# Altium schematic symbol library 18.连接器件.sch.SCHLIB: 77 symbols
Pins are listed as number, name and electrical type; pins without a type are passive.

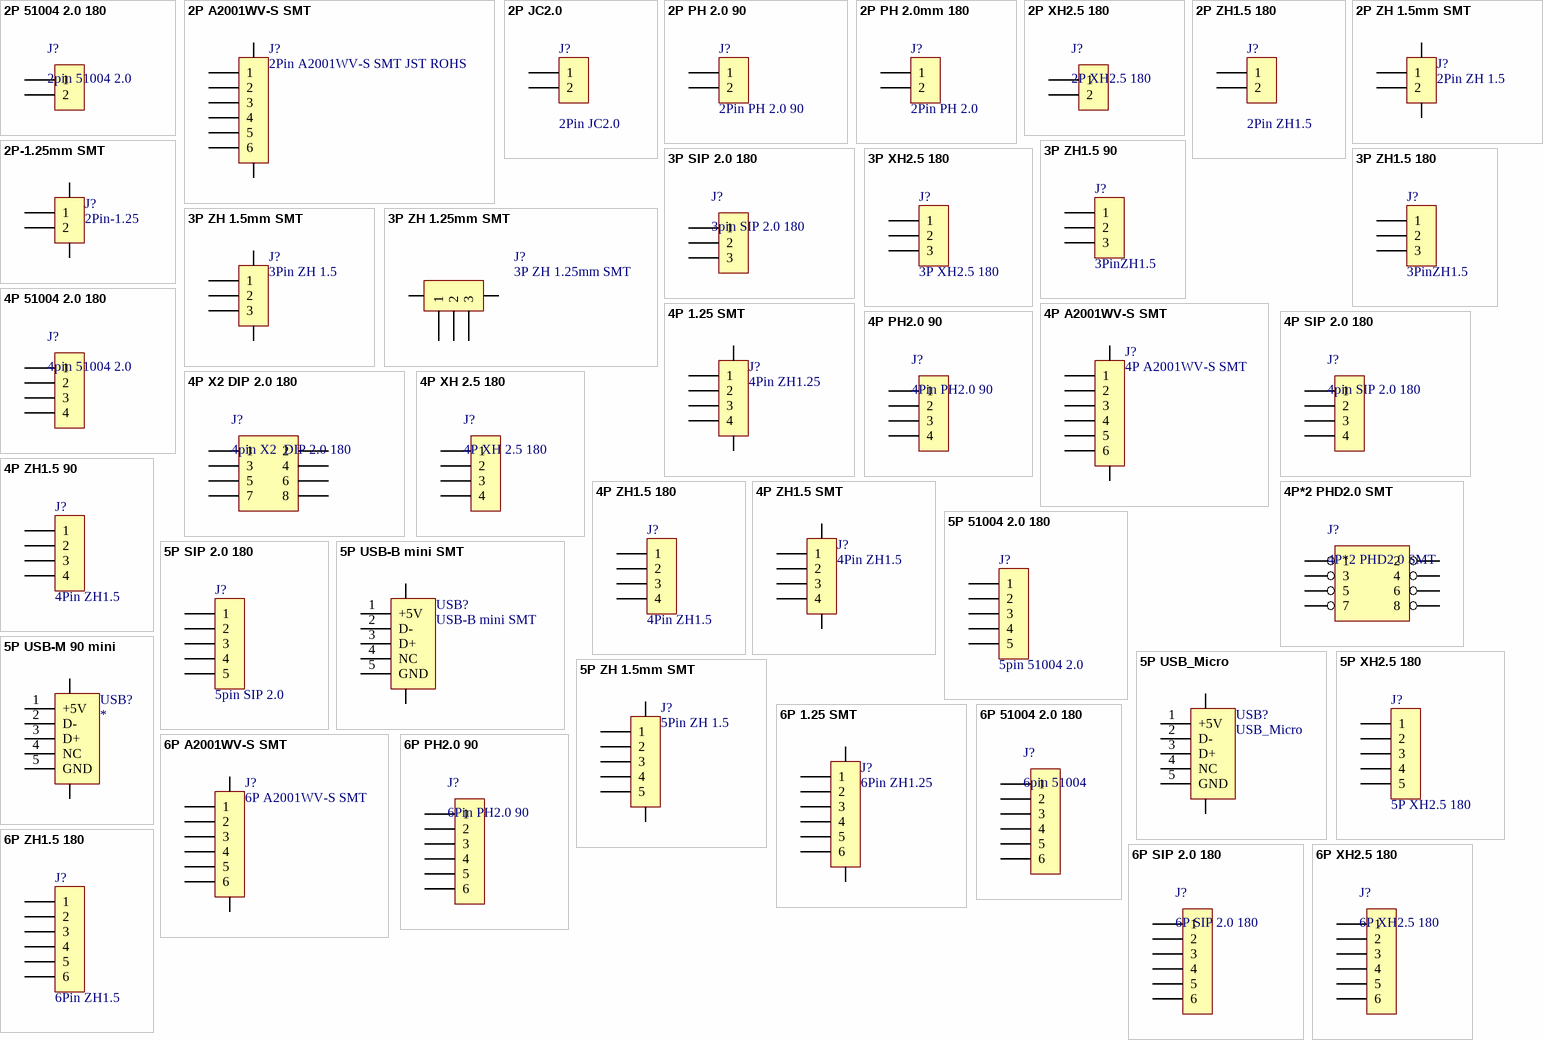
[diagram p0: symbols 2P 51004 2.0 180 to 6P ZH1.5 180]

## 2P 51004 2.0 180
designator J?, comment 2pin 51004 2.0
2pin 51004 2.0 180 Molex  ROHS; 物料编码: 38505128A; 器件名称: 插座; 器件价格: 0.65
footprint 2P-51004
pins: 1, 2

## 2P A2001WV-S SMT
designator J?, comment 2Pin A2001WV-S SMT JST ROHS
物料名称: 插座; 器件价格: *
footprint 2P-A2001WV-S
pins: 0, 0, 1, 2, 3, 4, 5, 6

## 2P JC2.0
designator J?, comment 2Pin JC2.0
2Pin JC2.0 ROHS; 物料编码: 38508091A; 器件名称: 插座; 器件价格: 0
footprint 2P-JC2.0
pins: 1, 2

## 2P PH 2.0 90
designator J?, comment 2Pin PH 2.0 90
2Pin PH 2.0 90 JST    ROHS; 物料编码: 38505031A; 器件名称: 插座
footprint 2P-PH-2.0-90
pins: 1, 2

## 2P PH 2.0mm 180
designator J?, comment 2Pin PH 2.0
2Pin PH 2.0mm 180 JST    ROHS; 物料编码: 38505031A; 器件名称: 插座
footprint 2P-51004
pins: 1, 2

## 2P XH2.5 180
designator J?
2pin XH2.5 180 JST  ROHS; 物料编码: 0; 器件名称: 插座; 器件价格: 0
footprint 2P-XH2.5 (Footprint not found)
pins: 1, 2

## 2P ZH1.5 180
designator J?, comment 2Pin ZH1.5
2Pin ZH1.5 180 JST ROHS; 物料编码: 38508091A; 器件名称: 插座; 器件价格: 0
footprint 2P-ZH1.5
pins: 1, 2

## 2P ZH 1.5mm SMT
designator J?, comment 2Pin ZH 1.5
2Pin ZH 1.5mm SMT JST   ROHS; 物料编码: 38505065A; 器件名称: 插座
footprint 2P-ZH1.5-SMT
pins: 0, 0, 1, 2

## 2P-1.25mm SMT
designator J?, comment 2Pin-1.25
2Pin 1.25mm SMT JST   ROHS; 器件名称: 插座
footprint 2P-1.25-SMT
pins: 0, 0, 1, 2

## 3P SIP 2.0 180
designator J?, comment 3pin SIP 2.0 180
3pin SIP 2.0 180  ROHS; 物料编码: 38505129A; 器件名称: 插座; 器件价格: 0.75
footprint SIP3(2.0) (单排针)
pins: 1, 2, 3

## 3P XH2.5 180
designator J?
3Pin XH2.5 180 JST ROHS; 物料编码: 0; 器件名称: 插座; 器件价格: 0
footprint 3P-XH2.5 (Footprint not found)
pins: 1, 2, 3

## 3P ZH1.5 90
designator J?, comment 3PinZH1.5
3PinZH1.5 90 JST ROHS; 物料编码: 38508088A; 器件名称: 插座
footprint 3P-ZH1.5
pins: 1, 2, 3

## 3P ZH1.5 180
designator J?, comment 3PinZH1.5
3PinZH1.5 180 JST ROHS; 物料编码: 38508092A; 器件名称: 插座; 器件价格: 0
footprint 3P-ZH1.5
pins: 1, 2, 3

## 3P ZH 1.5mm SMT
designator J?, comment 3Pin ZH 1.5
3Pin ZH 1.5mm SMT JST ROHS; 物料编码: 38505066A; 器件名称: 插座
footprint 3P-ZH1.5-SMT
pins: 0, 0, 1, 2, 3

## 3P ZH 1.25mm SMT
designator J?
3P ZH 1.25mm SMTJST ROHS; 物料编码: 38505066A; 器件名称: 插座
footprint 3P-1.25-SMT
pins: 0, 0, 1, 2, 3

## 4P 1.25 SMT
designator J?, comment 4Pin ZH1.25
4Pin ZH1.25 SMT JST  ROHS; 物料编码: 38505067A; 器件名称: 插座
footprint 4P-1.25-SMT
pins: 0, 0, 1, 2, 3, 4

## 4P 51004 2.0 180
designator J?, comment 4pin 51004 2.0
4pin 51004 2.0 180 Molex  ROHS; 物料编码: 38505129A; 器件名称: 插座; 器件价格: 0.75
footprint 4P-51004
pins: 1, 2, 3, 4

## 4P A2001WV-S SMT
designator J?
4P-A2001WV-S SMT JST ROHS; 物料名称: 插座; 器件价格: *
footprint 4P-A2001WV-S
pins: 0, 0, 1, 2, 3, 4, 5, 6

## 4P PH2.0 90
designator J?, comment 4Pin PH2.0 90
4Pin PH2.0 90 JST  ROHS; 物料编码: 38508078A; 器件名称: 插座
footprint 4P-PH-2.0-90
pins: 1, 2, 3, 4

## 4P SIP 2.0 180
designator J?, comment 4pin SIP 2.0 180
4pin SIP 2.0 180  ROHS; 物料编码: 38505129A; 器件名称: 插座; 器件价格: 0.75
footprint SIP4(2.0) (单排针)
pins: 1, 2, 3, 4

## 4P X2 DIP 2.0 180
designator J?, comment 4pin X2  DIP 2.0 180
物料编码: 38505129A; 器件名称: 插座; 器件价格: 0.75
footprint 8P-DIP-2.0-180
pins: 1, 2, 3, 4, 5, 6, 7, 8

## 4P XH 2.5 180
designator J?
4pin XH 2.5 180 JST  ROHS; 物料编码: 38505129A; 器件名称: 插座; 器件价格: 0.75
footprint 4P-XH2.5 (Footprint not found)
pins: 1, 2, 3, 4

## 4P ZH1.5 90
designator J?, comment 4Pin ZH1.5
4Pin ZH1.5 90 JST   ROHS; 物料编码: 38508084A; 器件名称: 插座
footprint 4P-ZH1.5
pins: 1, 2, 3, 4

## 4P ZH1.5 180
designator J?, comment 4Pin ZH1.5
4Pin ZH1.5 180 JST   ROHS; 物料编码: 38508093A; 器件名称: 插座; 器件价格: 0
footprint 4P-ZH1.5
pins: 1, 2, 3, 4

## 4P ZH1.5 SMT
designator J?, comment 4Pin ZH1.5
4Pin ZH1.5 SMT JST  ROHS; 物料编码: 38505067A; 器件名称: 插座
footprint 4P-ZH1.5-SMT
pins: 0, 0, 1, 2, 3, 4

## 4P*2 PHD2.0 SMT
designator J?
4P*2 PHD2.0 SMT JST ROHS; 器件名称: 插座; 器件价格: 0.215
footprint 8P-SOP
pins: 1, 2, 3, 4, 5, 6, 7, 8

## 5P 51004 2.0 180
designator J?, comment 5pin 51004 2.0
5pin 51004 2.0 180 Molex  ROHS; 物料编码: 38505130A; 器件名称: 插座; 器件价格: 0.92
footprint 5P-51004
pins: 1, 2, 3, 4, 5

## 5P SIP 2.0 180
designator J?, comment 5pin SIP 2.0
5pin SIP 2.0 180  ROHS; 物料编码: 38505130A; 器件名称: 插座; 器件价格: 0.92
footprint SIP5(2.0) (单排针)
pins: 1, 2, 3, 4, 5

## 5P USB-B mini SMT
designator USB?, comment USB-B mini SMT
footprint USB-B-MINI-5-S
pins: 0, 0, 1 +5V, 2 D-, 3 D+, 4 NC, 5 GND

## 5P USB-M 90 mini
designator USB?
USB-M 90 mini型
footprint USB-B-MINI-5-D
pins: 0, 0, 1 +5V, 2 D-, 3 D+, 4 NC, 5 GND

## 5P USB_Micro
designator USB?, comment USB_Micro
USB-B MicroSMT
footprint USB_Micro (5P 贴片 带定位柱)
pins: 0, 0, 1 +5V, 2 D-, 3 D+, 4 NC, 5 GND

## 5P XH2.5 180
designator J?
5pin XH2.5 180 JST  ROHS; 物料编码: 38505130A; 器件名称: 插座; 器件价格: 0.92
footprint 5P-XH2.5 (Footprint not found)
pins: 1, 2, 3, 4, 5

## 5P ZH 1.5mm SMT
designator J?, comment 5Pin ZH 1.5
5Pin ZH 1.5mm SMT JST   ROHS; 物料编码: 38505068A; 器件名称: 插座
footprint 5P-ZH1.5-SMT
pins: 0, 0, 1, 2, 3, 4, 5

## 6P 1.25 SMT
designator J?, comment 6Pin ZH1.25
6Pin ZH1.25 SMT JST  ROHS; 器件名称: 插座
footprint 6P-1.25-SMT
pins: 0, 0, 1, 2, 3, 4, 5, 6

## 6P 51004 2.0 180
designator J?, comment 6pin 51004
6pin 51004 2.0 180 Molex  ROHS; 物料编码: 38505131A; 器件名称: 插座; 器件价格: 0.91
footprint 6P-51004
pins: 1, 2, 3, 4, 5, 6

## 6P A2001WV-S SMT
designator J?
6P-A2001WV-S SMT JST   ROHS; 物料名称: 插座; 器件价格: *
footprint 6P-A2001WV-S
pins: 0, 0, 1, 2, 3, 4, 5, 6

## 6P PH2.0 90
designator J?, comment 6Pin PH2.0 90
6Pin PH2.0 90 JST  ROHS; 器件名称: 插座
footprint 6P-PH-2.0-90 (Footprint not found)
pins: 1, 2, 3, 4, 5, 6

## 6P SIP 2.0 180
designator J?
6pin SIP 2.0 180 Molex  ROHS; 物料编码: 38505131A; 器件名称: 插座; 器件价格: 0.91
footprint SIP6(2.0) (单排针)
pins: 1, 2, 3, 4, 5, 6

## 6P XH2.5 180
designator J?
6pin XH2.5 180 JST ROHS; 物料编码: 38505131A; 器件名称: 插座; 器件价格: 0.91
footprint 6P-XH2.5 (Footprint not found)
pins: 1, 2, 3, 4, 5, 6

## 6P ZH1.5 180
designator J?, comment 6Pin ZH1.5
6Pin ZH1.5 180 JST  ROHS; 物料编码: 38508065A; 器件名称: 插座
footprint 6P-ZH1.5
pins: 1, 2, 3, 4, 5, 6

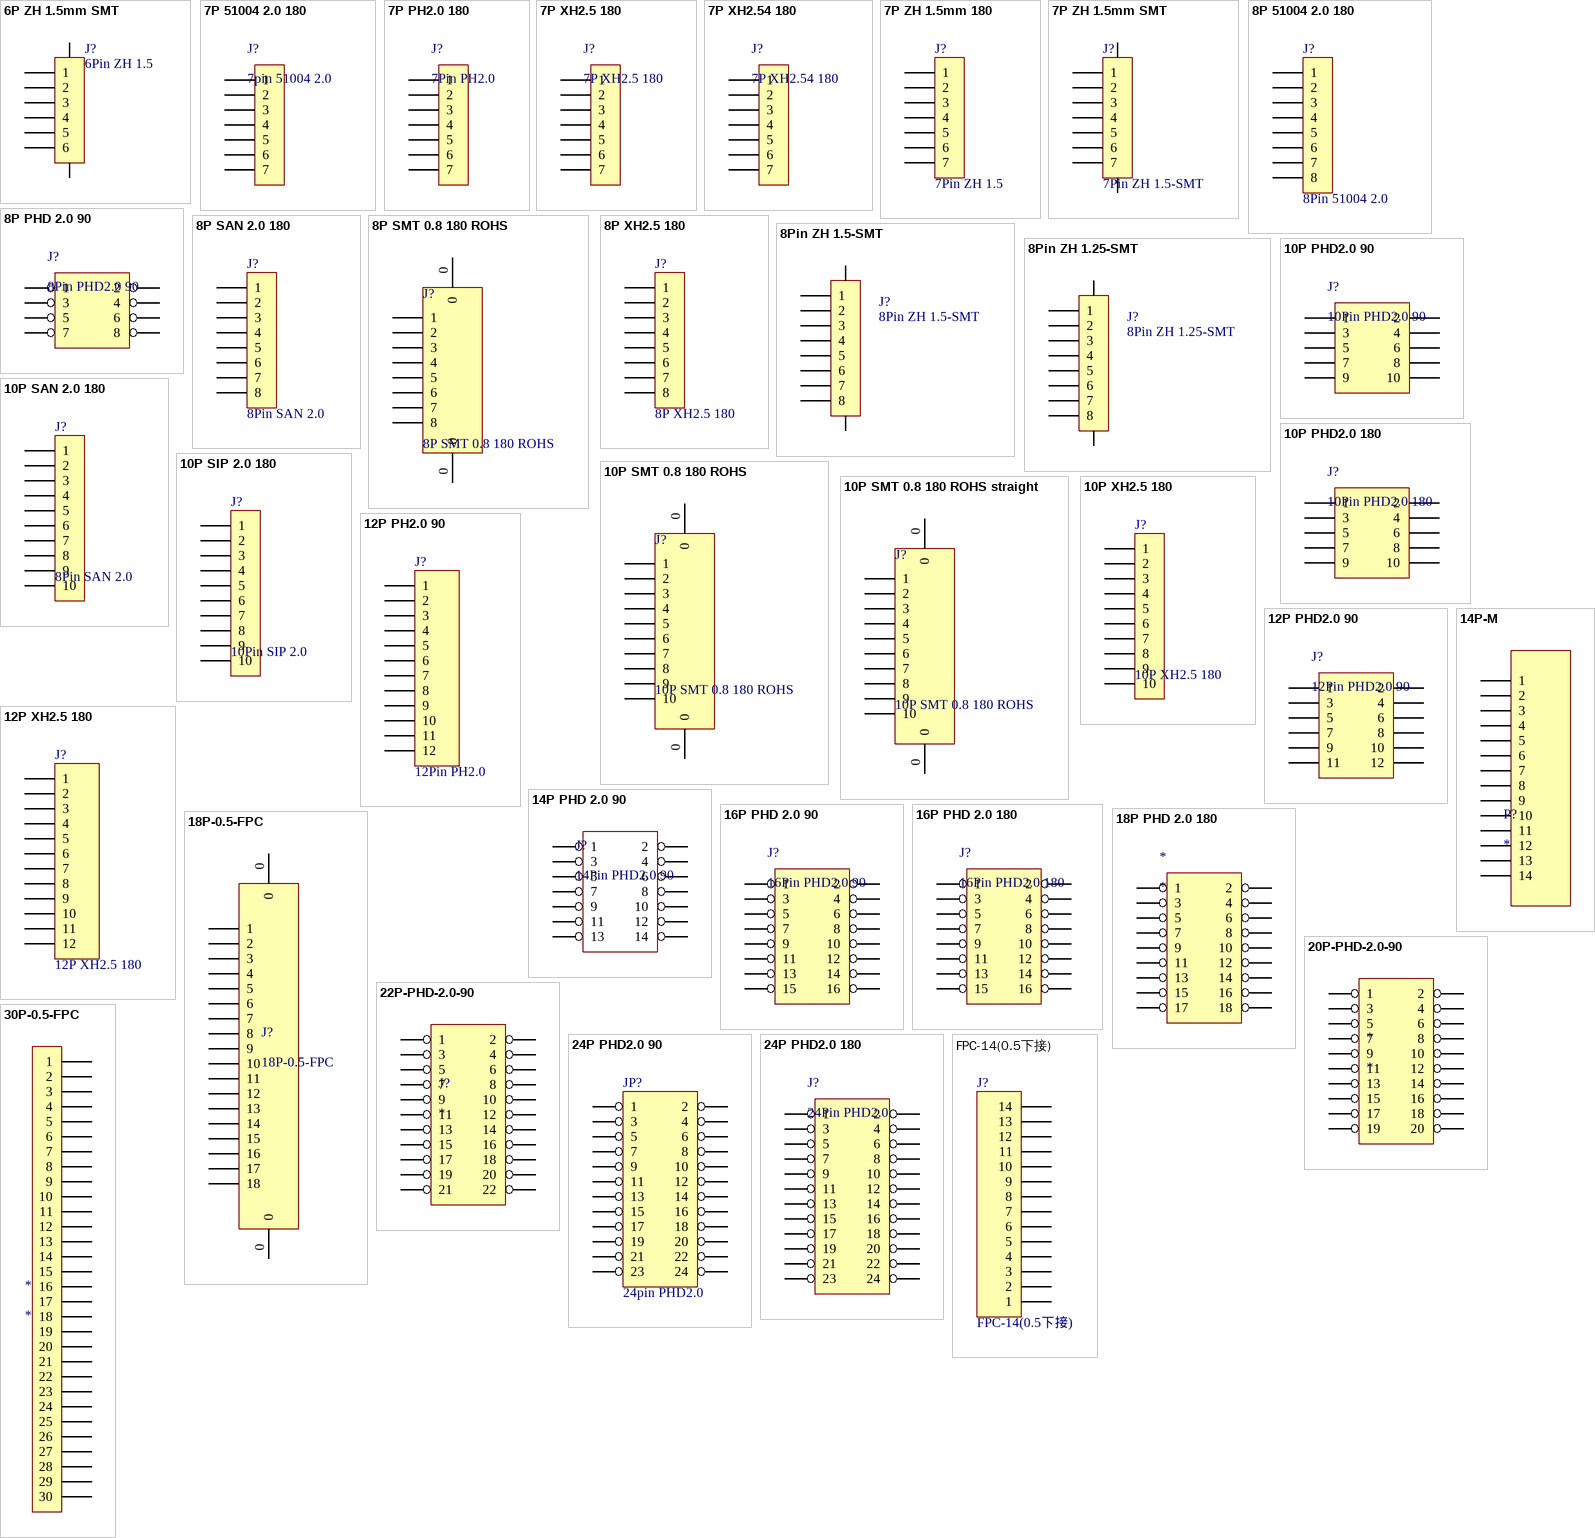
[diagram p1: symbols 6P ZH 1.5mm SMT to FPC-14(0.5下接)]

## 6P ZH 1.5mm SMT
designator J?, comment 6Pin ZH 1.5
6Pin ZH 1.5mm SMT JST   ROHS; 物料编码: 38505026A; 器件名称: 插座
footprint 6P-ZH1.5-SMT
pins: 0, 0, 1, 2, 3, 4, 5, 6

## 7P 51004 2.0 180
designator J?, comment 7pin 51004 2.0
7pin 51004 2.0 180 Molex  ROHS; 物料编码: 38505132A; 器件名称: 插座; 器件价格: 1.1
footprint 7P-51004
pins: 1, 2, 3, 4, 5, 6, 7

## 7P PH2.0 180
designator J?, comment 7Pin PH2.0
7Pin PH2.0 180 JST  ROHS; 物料编码: 38508071A; 器件名称: 插座
pins: 1, 2, 3, 4, 5, 6, 7

## 7P XH2.5 180
designator J?
7pin XH2.5 180 JST  ROHS; 物料编码: 38505132A; 器件名称: 插座; 器件价格: 1.1
footprint 7P-XH2.5
pins: 1, 2, 3, 4, 5, 6, 7

## 7P XH2.54 180
designator J?
7pin XH2.54 180; 物料编码: 38505132A; 器件名称: 插座; 器件价格: 1.1
footprint 7P-XH2.54
pins: 1, 2, 3, 4, 5, 6, 7

## 7P ZH 1.5mm 180
designator J?, comment 7Pin ZH 1.5
7Pin ZH 1.5mm 180 JST   ROHS; 物料编码: 38508051A; 器件名称: 插座
footprint 7P-ZH1.5
pins: 1, 2, 3, 4, 5, 6, 7

## 7P ZH 1.5mm SMT
designator J?, comment 7Pin ZH 1.5-SMT
7Pin ZH 1.5mm SMT JST   ROHS; 物料编码: 38505059A; 器件名称: 插座; 器件价格: 0.3
footprint 7P-ZH1.5-SMT
pins: 0, 0, 1, 2, 3, 4, 5, 6, 7

## 8P 51004 2.0 180
designator J?, comment 8Pin 51004 2.0
8Pin 51004 2.0 180 Molex  ROHS; 物料编码: 38505133A; 器件名称: 插座; 器件价格: 1.48
footprint 8P-51004
pins: 1, 2, 3, 4, 5, 6, 7, 8

## 8P PHD 2.0 90
designator J?, comment 8Pin PHD2.0 90
8Pin PHD2.0 90 JST ROHS; 器件名称: 插座; 器件价格: 0.215
footprint 8P-PHD-2.0-90 (Footprint not found)
pins: 1, 2, 3, 4, 5, 6, 7, 8

## 8P SAN 2.0 180
designator J?, comment 8Pin SAN 2.0
8Pin SAN 2.0 180 JST  ROHS; 器件名称: 插座; 器件价格: 0
footprint 8P-SAN2.0
pins: 1, 2, 3, 4, 5, 6, 7, 8

## 8P SMT 0.8 180 ROHS
designator J?
器件名称: 插座; 器件价格: 0
footprint 8P-0.8-SMT
pins: 0, 0, 1, 2, 3, 4, 5, 6, 7, 8

## 8P XH2.5 180
designator J?
8Pin XH2.5 180 JST  ROHS; 物料编码: 38505133A; 器件名称: 插座; 器件价格: 1.48
footprint 8P-XH2.5 (Footprint not found)
pins: 1, 2, 3, 4, 5, 6, 7, 8

## 8Pin ZH 1.5-SMT
designator J?
物料编码: 38505133A; 器件名称: 插座
footprint 8P-ZH1.5-SMT
pins: 0, 0, 1, 2, 3, 4, 5, 6, 7, 8

## 8Pin ZH 1.25-SMT
designator J?
物料编码: 38505133A; 器件名称: 插座
footprint 8P-ZH1.25-SMT
pins: 0, 0, 1, 2, 3, 4, 5, 6, 7, 8

## 10P PHD2.0 90
designator J?, comment 10Pin PHD2.0 90
10Pin PHD2.0 90 JST ROHS; 物料名称: 插座
footprint 10P-PHD-2.0-90
pins: 1, 2, 3, 4, 5, 6, 7, 8, 9, 10

## 10P PHD2.0 180
designator J?, comment 10Pin PHD2.0 180
10Pin PHD2.0 180 JST ROHS; 物料名称: 插座
footprint 10P-PHD-2.0-180
pins: 1, 2, 3, 4, 5, 6, 7, 8, 9, 10

## 10P SAN 2.0 180
designator J?, comment 8Pin SAN 2.0
10Pin SAN 2.0 180 JST  ROHS; 器件名称: 插座; 器件价格: 0
footprint 10P-SAN2.0
pins: 1, 2, 3, 4, 5, 6, 7, 8, 9, 10

## 10P SIP 2.0 180
designator J?, comment 10Pin SIP 2.0
10Pin SIP 2.0  ROHS; 器件名称: 插座; 器件价格: 0
footprint SIP10(2.0) (单排针)
pins: 1, 2, 3, 4, 5, 6, 7, 8, 9, 10

## 10P SMT 0.8 180 ROHS
designator J?
器件名称: 插座; 器件价格: 0
footprint 10P-0.8-SMT
pins: 0, 0, 1, 2, 3, 4, 5, 6, 7, 8, 9, 10

## 10P SMT 0.8 180 ROHS straight
designator J?, comment 10P SMT 0.8 180 ROHS
器件名称: 插座; 器件价格: 0
footprint 10P-0.8-SMT - straight
pins: 0, 0, 1, 2, 3, 4, 5, 6, 7, 8, 9, 10

## 10P XH2.5 180
designator J?
10Pin XH2.5 180 JST  ROHS; 器件名称: 插座; 器件价格: 0
footprint 10P-XH2.5 (Footprint not found)
pins: 1, 2, 3, 4, 5, 6, 7, 8, 9, 10

## 12P PH2.0 90
designator J?, comment 12Pin PH2.0
12Pin PH2.0 90 JST  ROHS; 物料编码: 38508079A; 器件名称: 插座
footprint 12P-JC2.0
footprint 12P-SAN2.0
pins: 1, 2, 3, 4, 5, 6, 7, 8, 9, 10, 11, 12

## 12P PHD2.0 90
designator J?, comment 12Pin PHD2.0 90
12Pin PHD2.0 90 JST ROHS; 物料名称: 插座
footprint 12P-PHD-2.0-90
pins: 1, 2, 3, 4, 5, 6, 7, 8, 9, 10, 11, 12

## 12P XH2.5 180
designator J?
12Pin XH2.5 180 JST  ROHS; 物料编码: 38508079A; 器件名称: 插座
footprint 12P-XH2.5 (Footprint not found)
pins: 1, 2, 3, 4, 5, 6, 7, 8, 9, 10, 11, 12

## 14P PHD 2.0 90
designator J?, comment 14Pin PHD2.0 90
14pin PHD 2.0 90 JST ROHS; 物料编码: 38505126A; 器件名称: 插座; 器件价格: 0.215
footprint 14P-PHD-2.0-90
pins: 1, 2, 3, 4, 5, 6, 7, 8, 9, 10, 11, 12, 13, 14

## 14P-M
designator P?
footprint 14P-M
pins: 1, 2, 3, 4, 5, 6, 7, 8, 9, 10, 11, 12, 13, 14

## 16P PHD 2.0 90
designator J?, comment 16Pin PHD2.0 90
16Pin PHD2.0 90 JST ROHS; 器件名称: 插座; 器件价格: 0.215
footprint 16P-PHD-2.0-90
pins: 1, 2, 3, 4, 5, 6, 7, 8, 9, 10, 11, 12, 13, 14, 15, 16

## 16P PHD 2.0 180
designator J?, comment 16Pin PHD2.0 180
16pin PHD 2.0 180 JST ROHS; 物料编码: 38505126A; 器件名称: 插座; 器件价格: 0.215
footprint 16P-PHD-2.0-180
pins: 1, 2, 3, 4, 5, 6, 7, 8, 9, 10, 11, 12, 13, 14, 15, 16

## 18P PHD 2.0 180
designator *
18Pin PHD2.0 180 JST ROHS
pins: 1, 2, 3, 4, 5, 6, 7, 8, 9, 10, 11, 12, 13, 14, 15, 16, 17, 18

## 18P-0.5-FPC
designator J?
footprint FPC0.5D-TX-18P
pins: 0, 0, 1, 2, 3, 4, 5, 6, 7, 8, 9, 10, 11, 12, 13, 14, 15, 16, 17, 18

## 20P-PHD-2.0-90
designator *
pins: 1, 2, 3, 4, 5, 6, 7, 8, 9, 10, 11, 12, 13, 14, 15, 16, 17, 18, 19, 20

## 22P-PHD-2.0-90
designator J?
pins: 1, 2, 3, 4, 5, 6, 7, 8, 9, 10, 11, 12, 13, 14, 15, 16, 17, 18, 19, 20, 21, 22

## 24P PHD2.0 90
designator JP?, comment 24pin PHD2.0
24pin PHD2.0 90  JST  ROHS; 物料编码: 38505075A; 器件名称: 插座; 器件价格: 0.376
footprint 24P-PHD-2.0-90
pins: 1, 2, 3, 4, 5, 6, 7, 8, 9, 10, 11, 12, 13, 14, 15, 16, 17, 18, 19, 20, 21, 22, 23, 24

## 24P PHD2.0 180
designator J?, comment 24Pin PHD2.0
24Pin PHD2.0 180 JST  ROHS; 物料编码: 38505126A; 器件名称: 插座; 器件价格: 0.376
footprint 24P-PHD-2.0-180
pins: 1, 2, 3, 4, 5, 6, 7, 8, 9, 10, 11, 12, 13, 14, 15, 16, 17, 18, 19, 20, 21, 22, 23, 24

## 30P-0.5-FPC
designator *
footprint FPC-30(0.5) 下接 (0.5K-DX-20PWB掀盖)
pins: 1, 2, 3, 4, 5, 6, 7, 8, 9, 10, 11, 12, 13, 14, 15, 16, 17, 18, 19, 20, 21, 22, 23, 24, 25, 26, 27, 28, 29, 30

## FPC-14(0.5下接)
designator J?
footprint sip14
footprint FPC-14(0.5下接)
footprint STOCKO14V
pins: 1, 2, 3, 4, 5, 6, 7, 8, 9, 10, 11, 12, 13, 14

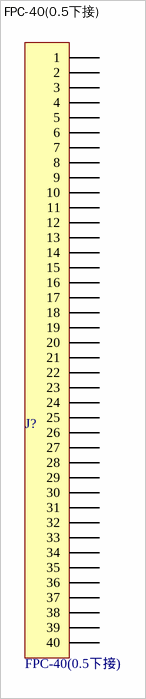
[diagram p2: symbol FPC-40(0.5下接)]

## FPC-40(0.5下接)
designator J?
footprint FPC-40(0.5下接) (0.5K-DX-20PWB掀盖)
pins: 1, 2, 3, 4, 5, 6, 7, 8, 9, 10, 11, 12, 13, 14, 15, 16, 17, 18, 19, 20, 21, 22, 23, 24, 25, 26, 27, 28, 29, 30, 31, 32, 33, 34, 35, 36, 37, 38, 39, 40